# EAGLE library part BBB_HEADER (library observer)
Beaglebone Black P9 Pin Header 2x23
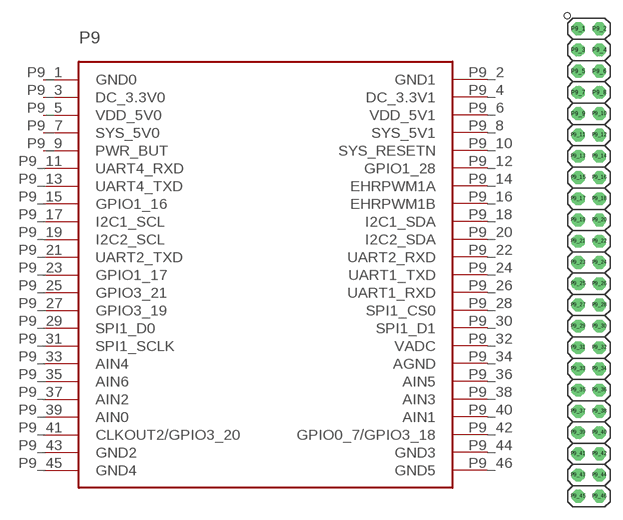
[diagram p0: symbol with the pads of BBB_HEADERS; footprint BBB_HEADERS]

Designator prefix -

## BBB_HEADER  [BBB_HEADERS]
P9_1  GND0
P9_2  GND1
P9_3  DC_3.3V0
P9_4  DC_3.3V1
P9_5  VDD_5V0
P9_6  VDD_5V1
P9_7  SYS_5V0
P9_8  SYS_5V1
P9_9  PWR_BUT
P9_10  SYS_RESETN
P9_11  UART4_RXD
P9_12  GPIO1_28
P9_13  UART4_TXD
P9_14  EHRPWM1A
P9_15  GPIO1_16
P9_16  EHRPWM1B
P9_17  I2C1_SCL
P9_18  I2C1_SDA
P9_19  I2C2_SCL
P9_20  I2C2_SDA
P9_21  UART2_TXD
P9_22  UART2_RXD
P9_23  GPIO1_17
P9_24  UART1_TXD
P9_25  GPIO3_21
P9_26  UART1_RXD
P9_27  GPIO3_19
P9_28  SPI1_CS0
P9_29  SPI1_D0
P9_30  SPI1_D1
P9_31  SPI1_SCLK
P9_32  VADC
P9_33  AIN4
P9_34  AGND
P9_35  AIN6
P9_36  AIN5
P9_37  AIN2
P9_38  AIN3
P9_39  AIN0
P9_40  AIN1
P9_41  CLKOUT2/GPIO3_20
P9_42  GPIO0_7/GPIO3_18
P9_43  GND2
P9_44  GND3
P9_45  GND4
P9_46  GND5

## Footprint BBB_HEADERS (pad centres in mm)
Beaglebone Black P9 P8 pin header
drill 1.016 octagon: P9_1 1.27,57.15; P9_2 3.81,57.15; P9_3 1.27,54.61; P9_4 3.81,54.61; P9_5 1.27,52.07; P9_6 3.81,52.07; P9_7 1.27,49.53; P9_8 3.81,49.53; P9_9 1.27,46.99; P9_10 3.81,46.99; P9_11 1.27,44.45; P9_12 3.81,44.45; P9_13 1.27,41.91; P9_14 3.81,41.91; P9_15 1.27,39.37; P9_16 3.81,39.37; P9_17 1.27,36.83; P9_18 3.81,36.83; P9_19 1.27,34.29; P9_20 3.81,34.29; P9_21 1.27,31.75; P9_22 3.81,31.75; P9_23 1.27,29.21; P9_24 3.81,29.21; P9_25 1.27,26.67; P9_26 3.81,26.67; P9_27 1.27,24.13; P9_28 3.81,24.13; P9_29 1.27,21.59; P9_30 3.81,21.59; P9_31 1.27,19.05; P9_32 3.81,19.05; P9_33 1.27,16.51; P9_34 3.81,16.51; P9_35 1.27,13.97; P9_36 3.81,13.97; P9_37 1.27,11.43; P9_38 3.81,11.43; P9_39 1.27,8.89; P9_40 3.81,8.89; P9_41 1.27,6.35; P9_42 3.81,6.35; P9_43 1.27,3.81; P9_44 3.81,3.81; P9_45 1.27,1.27; P9_46 3.81,1.27